# Altium integrated library B5B-ZR_LF__SN_.IntLib: 1 symbol
Pins are listed as number, name and electrical type; pins without a type are passive.

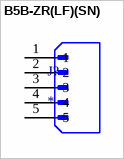
[diagram p0: symbol B5B-ZR(LF)(SN)]

## B5B-ZR(LF)(SN)
designator J?
Connector Header Through Hole 5 position 0.059 (1.50mm); MF: JST Sales; MP: B5B-ZR(LF)(SN); Package: None; Check_prices: https://www.snapeda.com/parts/B5B-ZR(LF)(SN)/JST%20Sales%20America%20Inc./view-part/214617/?ref=eda; Purchase-URL: https://pricing.snapeda.com/search/part/B5B-ZR(LF)(SN)/?ref=eda; Price: None; Value: *; Availability: Warning; SnapEDA_Link: https://www.snapeda.com/parts/B5B-ZR(LF)(SN)/JST%20Sales%20America%20Inc./view-part/214617/?ref=snap
footprint JST_B5B-ZR(LF)(SN)
pins: 1, 2, 3, 4, 5